# Altium footprint library Connecter.PcbLib: 15 footprints
Each footprint in its own frame and in the unit in brackets; x right, y up, seen from the top. Pads: shape width x height; smd on the part's side, far side on the other; paste and mask are expansions set on the pad; w line width, h text height; cw(c..) or ccw(c..) is an arc to the next point about the centre after c.
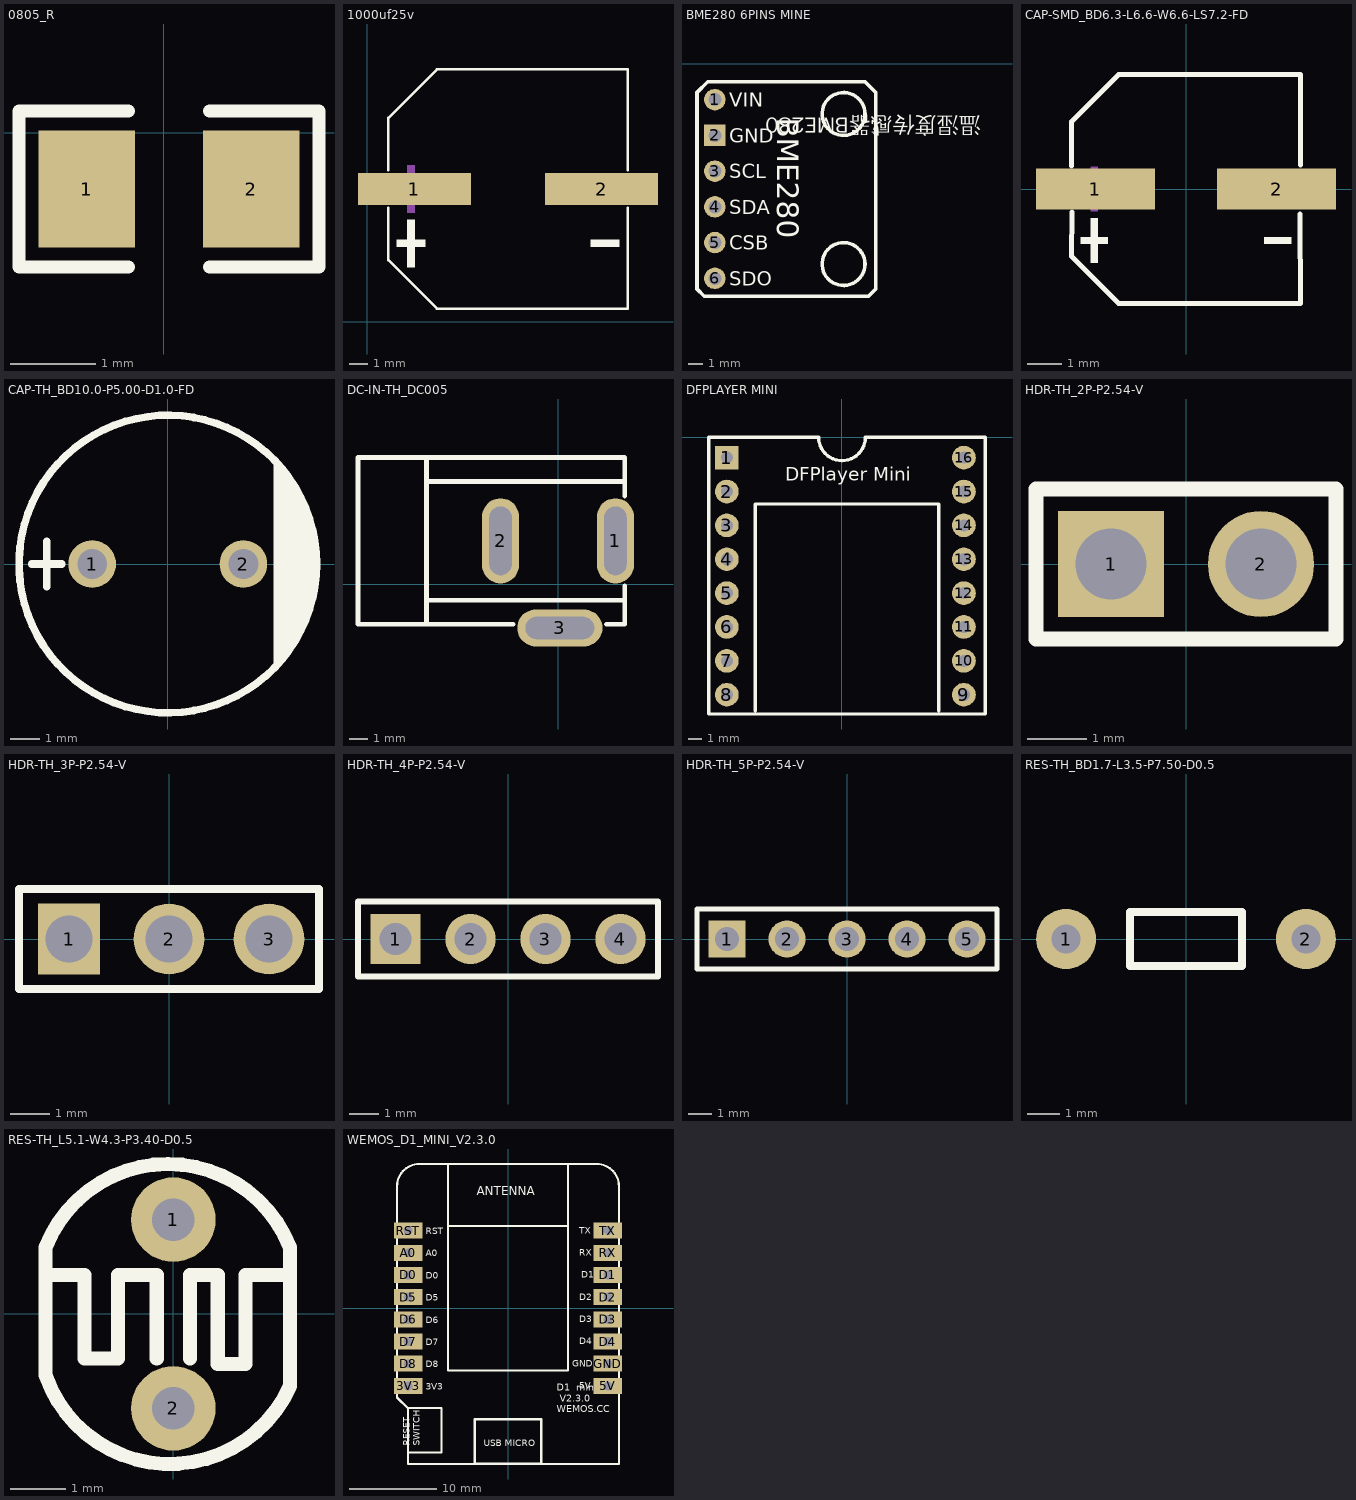
[diagram p0: the footprints below, top view; thin cyan lines are the x and y axes]

## 0805_C [mil]

## 0805_R [mil]
pads (2):
  rect 44.59x54.21 smd: 1(-35.71,-25.89) 2(40.38,-25.89)
Top Overlay:
  lines w6: -16.41,-62 -67,-62 -67,10.21 -16.41,10.21 ; 21.08,-62 71.67,-62 71.67,10.21 21.08,10.21
Top Paste:
  region: -64.59,-51.09 -64.59,-0.7 -62.62,1.27 -17.35,1.27 -15.38,-0.7 -15.18,-16.84 -32.9,-16.84 -32.9,-34.56 -15.58,-34.56 -15.38,-51.09 -17.35,-53.06 -62.62,-53.06
  region: 20.05,-51.09 20.05,-34.56 37.57,-34.56 37.57,-16.84 20.25,-16.84 20.05,-0.7 22.02,1.27 67.3,1.27 69.27,-0.7 69.27,-51.09 67.3,-53.06 22.02,-53.06
3D body "User Library-Res-0805.STEP": height 20.67, standoff 0, extent -39.37,-49.61 39.37,-0.39

## 1000uf25v [mm]
pads (2):
  rect 6.2x1.75 smd: 1(2.592,7.287) 2(12.882,7.287)
Top Overlay:
  region: 13.847,4.492 13.847,4.102 12.287,4.102 12.287,4.492
  region: 1.627,4.492 1.627,4.102 3.187,4.102 3.187,4.492
  region: 2.212,5.597 2.212,2.997 2.602,2.997 2.602,5.597
  lines w0.152: 1.161,6.26 1.161,3.387 3.837,0.711 14.313,0.711 14.313,6.26 ; 1.161,8.315 1.161,11.187 3.837,13.864 14.313,13.864 14.313,8.315
Mechanical 15:
  region: 13.847,7.482 13.847,7.092 12.287,7.092 12.287,7.482
  region: 1.627,7.482 1.627,7.092 3.187,7.092 3.187,7.482
  region: 2.212,8.587 2.212,5.987 2.602,5.987 2.602,8.587
3D body "25svpf330m.stp": height 12.7, standoff 0, extent 2.851,2.159 13.151,12.459

## BME280 6PINS MINE [mil]
pads (6):
  round 60 hole 36: 1(100,-100) 3(100,-300) 4(100,-400) 5(100,-500) 6(100,-600)
  rect 60x60 hole 36: 2(100,-200)
Top Overlay:
  circle w10: c460,-140 r60
  circle w10: c460,-560 r60
  lines w10: 50,-630 70,-650 530,-650 550,-630 550,-80 520,-50 80,-50 50,-80 50,-630
  text "温湿度传感器BME280" at 844.35,-151.15 h45
  text "VIN" at 140,-120 h40
  text "GND" at 140,-220 h40
  text "SCL" at 140,-320 h40
  text "SDA" at 140,-420 h40
  text "BME280" at 275,-150 h60
  text "CSB" at 140,-520 h40
  text "SDO" at 140,-620 h40

## CAP-SMD_BD6.3-L6.6-W6.6-LS7.2-FD [mm]
pads (2):
  rect 3.5x1.2 smd: 1(-2.67,0) 2(2.67,0)
Top Overlay:
  region: -2.805,-0.858 -2.805,-2.178 -2.607,-2.178 -2.607,-0.858
  region: -3.102,-1.419 -3.102,-1.617 -2.31,-1.617 -2.31,-1.419
  region: 3.102,-1.419 3.102,-1.617 2.31,-1.617 2.31,-1.419
  lines w0.152: -3.376,0.686 -3.376,1.98 -1.98,3.376 3.376,3.376 3.369,0.708 ; -3.362,-0.686 -3.376,-1.981 -1.981,-3.376 3.376,-3.376 3.356,-0.739
Mechanical 15:
  region: -2.805,0.66 -2.805,-0.66 -2.607,-0.66 -2.607,0.66
  region: -3.102,0.099 -3.102,-0.099 -2.31,-0.099 -2.31,0.099
  region: 3.102,0.099 3.102,-0.099 2.31,-0.099 2.31,0.099
3D body "User Library-CAP SMD SVP 6_3x5_9.STEP": height 5.9, standoff 0, extent -3.523,-3.302 3.777,3.298

## CAP-TH_BD10.0-P5.00-D1.0-FD [mm]
pads (2):
  round 1.6 hole 1: 1(-2.54,0) 2(2.54,0)
Top Overlay:
  circle w0.254: c0,0 r4.999
  region: 3.556,3.556 3.556,-3.556 4.318,-2.54 4.826,-1.016 5.08,0.508 4.826,1.524
  lines w0.254: -4.572,0 -3.556,0 ; -4.064,-0.762 -4.064,0.762
3D body "70324301.stp": height 12.7, standoff 0, extent -5.207,-5.207 5.093,5.093

## DC-IN-TH_DC005 [mm]
pads (3):
  oval 2x4.6 hole 1.2 slot 3.7 at 90 deg: 1(3.1,2.35) 2(-3.1,2.35)
  oval 4.6x2 hole 1.2 slot 3.7 at 0 deg: 3(0.1,-2.35)
Top Overlay:
  lines w0.254: -7.1,-2.15 -7.1,6.85 ; -7.019,-0.85 3.601,-0.85 ; -7.019,5.55 3.601,5.55 ; -2.415,-2.15 -10.8,-2.15 -10.8,6.85 3.601,6.85 3.601,4.775 ; 2.615,-2.15 3.601,-2.15 3.601,-0.074

## DFPLAYER MINI [mil]
pads (16):
  rect 70x70 hole 36: 1(-340,-60)
  round 70 hole 36: 2(-340,-160) 3(-340,-260) 4(-340,-360) 5(-340,-460) 6(-340,-560) 7(-340,-660) 8(-340,-760) 9(360,-760) 10(360,-660) 11(360,-560) 12(360,-460) 13(360,-360) 14(360,-260) 15(360,-160) 16(360,-60)
Top Overlay:
  lines w10: -255.9,-807.09 -255.9,-196.85 285.43,-196.85 285.43,-807.09 ; -393.7,-816.93 -393.7,0 -68.9,0 ccw(c0,0) 68.9,0 423.23,0 423.23,-816.93 -393.7,-816.93
  text "DFPlayer Mini" at -167.2,-127.99 h39.37
3D body "User Library-PBS_(DS1023)_1line_connectors_h=5_0_8_5mm_step_2_54mm-1.STEP": height 334.65, standoff -118.11, extent 311.57,-819.68 410,0
3D body "User Library-PBS_(DS1023)_1line_connectors_h=5_0_8_5mm_step_2_54mm-1.STEP": height 334.65, standoff -118.11, extent -389.21,-819.68 -290.79,0

## HDR-TH_2P-P2.54-V [mm]
pads (2):
  rect 1.8x1.8 hole 1.2: 1(-1.27,0)
  round 1.8 hole 1.2: 2(1.27,0)
Top Overlay:
  lines w0.254: -2.54,-1.27 -2.54,1.27 2.54,1.27 2.54,-1.27 -2.54,-1.27
3D body "User Library-2_54PIN_double.step": height 8.54, standoff -3, extent -2.492,-1.27 2.588,1.27

## HDR-TH_3P-P2.54-V [mm]
pads (3):
  rect 1.575x1.8 hole 1.2: 1(-2.54,0)
  round 1.8 hole 1.2: 2(0,0) 3(2.54,0)
Top Overlay:
  lines w0.203: -3.81,-1.27 3.81,-1.27 3.81,1.27 -1.905,1.27 -3.81,1.27 -3.81,-1.27
3D body "User Library-PZ-3P.step": height 8, standoff -3, extent -3.81,-1.269 3.81,1.271

## HDR-TH_4P-P2.54-V [mm]
pads (4):
  rect 1.7x1.7 hole 1.1: 1(-3.81,0)
  round 1.7 hole 1.1: 2(-1.27,0) 3(1.27,0) 4(3.81,0)
Top Overlay:
  lines w0.203: -5.08,-1.27 -5.08,1.27 -3.175,1.27 5.08,1.27 5.08,-1.27 -5.08,-1.27
3D body "User Library-header-2_54mm-4x1.STEP": height 9.39, standoff -3.3, extent -5.122,-1.264 5.038,1.276

## HDR-TH_5P-P2.54-V [mil]
pads (5):
  rect 62x62 hole 40.16: 1(-200,0)
  round 62 hole 40.16: 2(-100,0) 3(0,0) 4(100,0) 5(200,0)
Top Overlay:
  lines w7.99: -175,50 250,50
  lines w8: -175,50 -250,50 -250,-50 250,-50 250,50
3D body "User Library-HEADER 5.step": height 397.64, standoff -59.06, extent -250,-49.06 250,50.94

## RES-TH_BD1.7-L3.5-P7.50-D0.5 [mil]
pads (2):
  round 74 hole 35.43: 1(-147.64,0)
  round 74 hole 35.4: 2(147.64,0)
Top Overlay:
  lines w10: -68.9,-33.47 -68.9,33.47 68.9,33.47 68.9,-33.47 -68.9,-33.47

## RES-TH_L5.1-W4.3-P3.40-D0.5 [mil]
pads (2):
  round 60 hole 30: 1(0,66.93) 2(0,-66.93)
Top Overlay:
  lines w10: -90.6,-43.27 ccw(c-2.4,-13.19) 82.7,-51.17 ; -90.6,47.23 cw(c-3.95,13.33) 82.7,47.23 82.68,-51.18 ; -90.55,-43.31 -90.55,47.24 ; -90.55,27.56 -62.99,27.56 -62.99,-31.5 -39.37,-31.5 -39.37,27.56 -11.81,27.56 -11.81,-31.5 ; 11.81,-31.5 11.81,27.56 31.5,27.56 31.5,-35.43 51.18,-35.43 51.18,27.56 82.68,27.56

## WEMOS_D1_MINI_V2.3.0 [mil]
pads (16):
  rect 129.6x72 hole 40: 3V3(-450,-350) 5V(450,-350) A0(-450,250) D0(-450,150) D1(450,150) D2(450,50) D3(450,-50) D4(450,-150) D5(-450,50) D6(-450,-50) D7(-450,-150) D8(-450,-250) GND(450,-250) RST(-450,350) RX(450,250) TX(450,350)
Top Overlay:
  lines w10: -500,548.2 -500,-401.8 -450,-451.8 -450,-701.8 500,-701.8 500,548.2 ; -500,550 cw(c-400,550) -400,650 400,650 cw(c400,550) 500,550 ; -270,650 -270,370 ; 270,650 270,370 ; -270,370 -270,-280 270,-280 270,370 ; -270,370 270,370 ; -450,-650 -300,-650 -300,-450 -450,-450 -450,-650 ; -150,-700 -150,-500 150,-500 150,-700 -150,-700
  text "RESET / SWITCH" at -398.6,-620 h30
  text "USB MICRO" at -110,-621.4 h30
  text "ANTENNA" at -140,508.2 h40
  text "TX" at 320,336.8 h30
  text "RX" at 320,236.8 h30
  text "D1" at 330,136.8 h30
  text "D2" at 320,36.8 h30
  text "D3" at 320,-63.2 h30
  text "D4" at 320,-163.2 h30
  text "GND" at 290,-263.2 h30
  text "5V" at 320,-363.2 h30
  text "3V3" at -370,-366.8 h30
  text "D8" at -370,-266.8 h30
  text "D7" at -370,-166.8 h30
  text "D6" at -370,-66.8 h30
  text "D5" at -370,33.2 h30
  text "D0" at -370,133.2 h30
  text "A0" at -370,233.2 h30
  text "RST" at -370,333.2 h30
  text "D1  mini /  V2.3.0 / WEMOS.CC" at 220,-468.5 h32
3D body "User Library-PBS_(DS1023)_1line_connectors_h=5_0_8_5mm_step_2_54mm-1.STEP": height 334.65, standoff -118.11, extent 400.79,-409.84 499.21,409.84
3D body "User Library-PBS_(DS1023)_1line_connectors_h=5_0_8_5mm_step_2_54mm-1.STEP": height 334.65, standoff -118.11, extent -499.21,-409.84 -400.79,409.84